# Altium schematic symbol library SEMATIK_LIB.SchLib: 632 symbols (part 3 of 21)
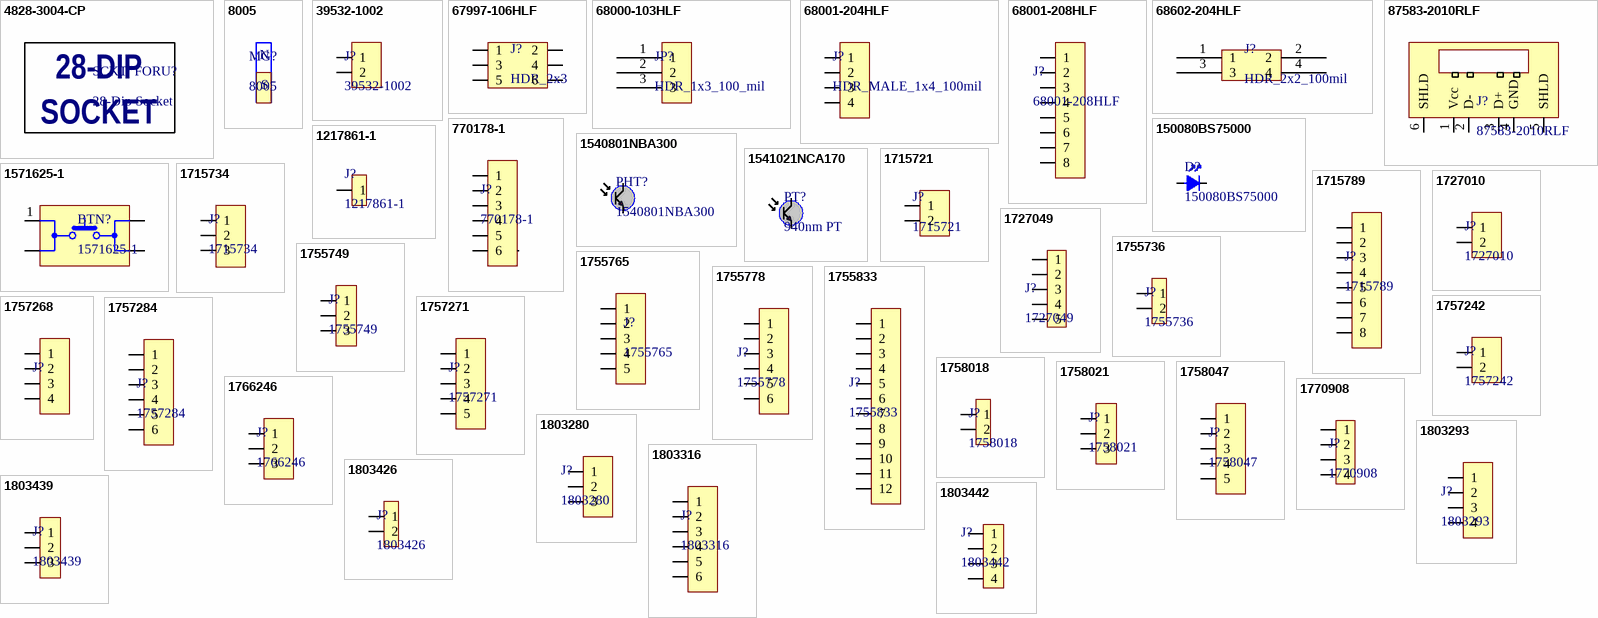
[diagram p18: symbols 4828-3004-CP to 1803442]

## 1755833
designator J?
TERM BLOCK HDR 12POS VERT 5.08MM; Manufacturer: Phoenix Contact; Current Rating: 12A; Voltage Rating: 250V; Number of Positions: 12; Number of Levels: 1; Voltage: 300V; Connector Type: Plug; Approvals: UL,CSA; Supplier 1: Digi-Key; Manufacturer Part Number: 1755833; Stock 1: 732; Pricing 1: 1 = 3,78000, 10 = 3,67400, 50 = 3,43360, 100 = 3,15880, 250 = 2,91848, 500 = 2,78116, 1000 = 2,60948 (USD); RoHS: Yes; Mount: Through Hole; Weight: 5.467464oz; Housing Material: Polybutylene; Housing Color: Green; Color: Grey,Green; Contact Plating: Tin; Contact Material: Tin; Package Quantity: 50; Packaging: Bulk; Termination: Solder; Number of Positions Per Level: 12; Current: 12A; Max Current Rating: 12A; Number of Rows: 1; Number of Contacts: 12; Orientation: Straight; Number of Poles: 12; Voltage Rating (DC): 250V; Length: 62.96mm; Height: 15.9mm; Pitch: 5.08mm; Width: 62.96mm; Depth: 8.6mm; Flammability Rating: UL94 V-0; Lead Free: Lead Free; REACH SVHC: Unknown; ComponentLink1URL: https://datasheet.ciiva.com/16096/1755833-16096339.pdf?src-supplier=Onlinecomponents.com; ComponentLink1Description: https://datasheet.ciiva.com/16096/1755833-16096339.pdf?src-supplier=Onlinecomponents.com; ComponentLink2URL: https://datasheet.ciiva.com/15197/getdatasheetpartid-211504-15197323.pdf?src-supplier=Verical; ComponentLink2Description: https://datasheet.ciiva.com/15197/getdatasheetpartid-211504-15197323.pdf?src-supplier=Verical; ComponentLink3URL: https://datasheet.ciiva.com/795/1755833-795503.pdf?src-supplier=Digi-Key; ComponentLink3Description: https://datasheet.ciiva.com/795/1755833-795503.pdf?src-supplier=Digi-Key; ComponentLink4URL: https://datasheet.ciiva.com/29210/569046-da-01-de-grundgehaeuse-1755833-50-st-29210300.pdf?src-supplier=Conrad; ComponentLink4Description: https://datasheet.ciiva.com/29210/569046-da-01-de-grundgehaeuse-1755833-50-st-29210300.pdf?src-supplier=Conrad; ComponentLink5URL: https://datasheet.ciiva.com/33106/1755833-33106188.pdf?src-supplier=Today+Components; ComponentLink5Description: https://datasheet.ciiva.com/33106/1755833-33106188.pdf?src-supplier=Today+Components; Supplier Part Number 1: 277-1160-ND
footprint SOCKET_5.08_1X12_180_CLOSE
footprint SOCKET_5.08_1X12_180_CLOSE_WITH_PLUG
pins: 1, 2, 3, 4, 5, 6, 7, 8, 9, 10, 11, 12

## 1757242
designator J?
TERM BLOCK HDR 2POS 90DEG 5.08MM; Manufacturer 1: Phoenix Contact; Max Current Rating: 12A; Number of Poles: 2; Voltage Rating: 250V; Number of Levels: 1; Current: 15A; Voltage: 300V; Gender: Male; Connector Type: Plug; Voltage Rating (DC): 320V; Approvals: UL,CSA,VDE,EN; Supplier 1: Digi-Key; Manufacturer Part Number 1: 1757242; Stock 1: 17400; Pricing 1: 1=0.64, 10=0.616, 50=0.589, 100=0.573, 250=0.53552, 500=0.49266, 1000=0.45518, 2500=0.43375, 5000=0.40698 (USD); Mount: Through Hole; Weight: 5.396916oz; Contact Plating: Tin; Color: Grey,Green; Housing Color: Green; Contact Material: Tin; Housing Material: Polyamide; Number of Rows: 1; Current Rating: 12A; Package Quantity: 50; Packaging: Bulk; Number of Positions: 2; Termination: Solder; Number of Positions Per Level: 2; Number of Contacts: 2; Orientation: Right Angle; Length: 12.16mm; Height: 12.08mm; Pitch: 5.08mm; Width: 12.1mm; Depth: 12mm; REACH SVHC: No SVHC; Lead Free: Lead Free; Flammability Rating: UL94 V-0; ComponentLink1URL: https://media.digikey.com/pdf/Data%20Sheets/Phoenix%20Contact%20PDFs/1757242.pdf?src-supplier=Verical; ComponentLink1Description: https://media.digikey.com/pdf/Data%20Sheets/Phoenix%20Contact%20PDFs/1757242.pdf?src-supplier=Verical; ComponentLink2URL: https://media.digikey.com/pdf/Data%20Sheets/Phoenix%20Contact%20PDFs/1757242.pdf?src-supplier=Onlinecomponents.com; ComponentLink2Description: https://media.digikey.com/pdf/Data%20Sheets/Phoenix%20Contact%20PDFs/1757242.pdf?src-supplier=Onlinecomponents.com; ComponentLink3URL: http://www.farnell.com/datasheets/2138262.pdf?src-supplier=Element14; ComponentLink3Description: http://www.farnell.com/datasheets/2138262.pdf?src-supplier=Element14; ComponentLink4URL: https://media.digikey.com/pdf/Data%20Sheets/Phoenix%20Contact%20PDFs/1757242.pdf?src-supplier=Digi-Key; ComponentLink4Description: https://media.digikey.com/pdf/Data%20Sheets/Phoenix%20Contact%20PDFs/1757242.pdf?src-supplier=Digi-Key; ComponentLink5URL: http://www.todaycomponents.com/media/datasheet/1757242.pdf?src-supplier=Today+Components; ComponentLink5Description: http://www.todaycomponents.com/media/datasheet/1757242.pdf?src-supplier=Today+Components; ComponentLink6URL: https://produktinfo.conrad.com/datenblaetter/550000-574999/569017-da-01-en-GRUNDGEHAEUSE__1757242_250_ST.pdf?src-supplier=Conrad; ComponentLink6Description: https://produktinfo.conrad.com/datenblaetter/550000-574999/569017-da-01-en-GRUNDGEHAEUSE__1757242_250_ST.pdf?src-supplier=Conrad; Supplier Part Number 1: 277-1106-ND
footprint SOCKET_5.08_1X2_90_CLOSE
pins: 1, 2

## 1757268
designator J?, comment 1x4_200mil_90DRC_closed  (value not drawn)
TERM BLOCK HDR 4POS 90DEG 5.08MM; Manufacturer: Phoenix Contact; Manufacturer Part Number: 1757268; Number of Positions: 4; Connector Type: Plug; Max Current Rating: 12A; Voltage Rating: 250V; Number of Levels: 1; Current: 15A; Voltage: 300V; Gender: Male; Approvals: CSA,UL; Supplier 1: Digi-Key; Stock 1: 4034; Pricing 1: 1=1.4, 10=1.34, 50=1.282, 100=1.2471, 250=1.16552, 500=1.07226, 1000=0.99067, 2500=0.94405, 5000=0.88579 (USD); Mount: Through Hole; Weight: 5.396916oz; Color: Green; Contact Plating: Tin; Housing Color: Green; Housing Material: Polybutylene; Contact Material: Tin; Package Quantity: 50; Packaging: Bulk; Current Rating: 12A; Number of Positions Per Level: 4; Termination: Solder; Number of Contacts: 4; Number of Rows: 1; Number of Poles: 4; Orientation: Right Angle; Voltage Rating (DC): 250V; Length: 22.32mm; Height: 12.1mm; Pitch: 5.08mm; Width: 22.24mm; Depth: 12mm; Flammability Rating: UL94 V-0; Lead Free: Lead Free; REACH SVHC: No SVHC; ComponentLink1URL: https://www.verical.com/server-webapp/html/getDatasheet?partID=176352&src-supplier=Verical; ComponentLink1Description: https://www.verical.com/server-webapp/html/getDatasheet?partID=176352&src-supplier=Verical; ComponentLink2URL: http://www.farnell.com/datasheets/2309814.pdf?src-supplier=Element14; ComponentLink2Description: http://www.farnell.com/datasheets/2309814.pdf?src-supplier=Element14; ComponentLink3URL: https://media.digikey.com/pdf/Data%20Sheets/Phoenix%20Contact%20PDFs/1757268.pdf?src-supplier=Digi-Key; ComponentLink3Description: https://media.digikey.com/pdf/Data%20Sheets/Phoenix%20Contact%20PDFs/1757268.pdf?src-supplier=Digi-Key; ComponentLink4URL: https://www.alliedelec.com/m/d/3eb046be4227fef2fbc4145d8358688f.pdf?src-supplier=Allied+Electronics; ComponentLink4Description: https://www.alliedelec.com/m/d/3eb046be4227fef2fbc4145d8358688f.pdf?src-supplier=Allied+Electronics; ComponentLink5URL: https://produktinfo.conrad.com/datenblaetter/550000-574999/569323-da-01-en-GRUNDGEHAEUSE__1757268_250_ST.pdf?src-supplier=Conrad; ComponentLink5Description: https://produktinfo.conrad.com/datenblaetter/550000-574999/569323-da-01-en-GRUNDGEHAEUSE__1757268_250_ST.pdf?src-supplier=Conrad; Supplier Part Number 1: 277-1108-ND
footprint 1x4_200mil_connector_90_closed
pins: 1, 2, 3, 4

## 1757271
designator J?
TERM BLOCK HDR 5POS 90DEG 5.08MM CLOSED; Manufacturer 1: Phoenix Contact; Current Rating: 12A; Voltage Rating: 250V; Number of Positions: 5; Number of Levels: 1; Current: 15A; Voltage: 300V; Connector Type: Plug; Gender: Male; Voltage Rating (DC): 320V; Approvals: UL,CSA,VDE,EN; Supplier 1: Digi-Key; Manufacturer Part Number 1: 1757271; Stock 1: 2980; Pricing 1: 1=1.75, 10=1.678, 50=1.6054, 100=1.5617, 250=1.45952, 500=1.34274, 1000=1.24057, 2500=1.18219, 5000=1.10922 (USD); Mount: Through Hole; Weight: 5.396916oz; Color: Green; Contact Plating: Tin; Housing Color: Green; Housing Material: Polybutylene; Contact Material: Tin; Package Quantity: 50; Packaging: Bulk; Termination: Solder; Number of Positions Per Level: 5; Number of Rows: 1; Max Current Rating: 12A; Number of Contacts: 5; Orientation: Right Angle; Number of Poles: 5; Length: 27.4mm; Height: 12.1mm; Pitch: 5.08mm; Width: 27.32mm; Depth: 12mm; Flammability Rating: UL94 V-0; Lead Free: Lead Free; REACH SVHC: No SVHC; ComponentLink1URL: https://www.verical.com/server-webapp/html/getDatasheet?partID=198279&src-supplier=Verical; ComponentLink1Description: https://www.verical.com/server-webapp/html/getDatasheet?partID=198279&src-supplier=Verical; ComponentLink2URL: http://www.farnell.com/datasheets/2138264.pdf?src-supplier=Element14; ComponentLink2Description: http://www.farnell.com/datasheets/2138264.pdf?src-supplier=Element14; ComponentLink3URL: https://www.alliedelec.com/m/d/0bb13555a46e368f5bcbd94295d3126c.pdf?src-supplier=Allied+Electronics; ComponentLink3Description: https://www.alliedelec.com/m/d/0bb13555a46e368f5bcbd94295d3126c.pdf?src-supplier=Allied+Electronics; ComponentLink4URL: https://media.digikey.com/pdf/Data%20Sheets/Phoenix%20Contact%20PDFs/1757271.pdf?src-supplier=Digi-Key; ComponentLink4Description: https://media.digikey.com/pdf/Data%20Sheets/Phoenix%20Contact%20PDFs/1757271.pdf?src-supplier=Digi-Key; ComponentLink5URL: https://produktinfo.conrad.com/datenblaetter/775000-799999/775753-da-01-en-GRUNDGEHAEUSE__1757271_250_ST.pdf?src-supplier=Conrad; ComponentLink5Description: https://produktinfo.conrad.com/datenblaetter/775000-799999/775753-da-01-en-GRUNDGEHAEUSE__1757271_250_ST.pdf?src-supplier=Conrad; Supplier Part Number 1: 277-1109-ND
footprint SOCKET_5.08_1X5_90_CLOSE
pins: 1, 2, 3, 4, 5

## 1757284
designator J?
TERM BLOCK HDR 6POS 90DEG 5.08MM
footprint SOCKET_5.08_1x6_90_CLOSE
pins: 1, 2, 3, 4, 5, 6

## 1758018
designator J?
TERM BLOCK HDR 2POS VERT 5.08MM; Manufacturer: Phoenix Contact; Current Rating: 12A; Voltage Rating: 250V; Number of Poles: 2; Number of Levels: 1; Voltage: 300V; Approvals: UL,CSA,VDE,EN; Supplier 1: Digi-Key; Manufacturer Part Number: 1758018; Stock 1: 4815; Pricing 1: 1 = 0,64000, 10 = 0,61600, 50 = 0,58900, 100 = 0,57300, 250 = 0,53552, 500 = 0,49266, 1000 = 0,45518, 2500 = 0,43375, 5000 = 0,40698 (USD); RoHS: Yes; Mount: Through Hole; Weight: 5.43219oz; Housing Material: Polybutylene; Color: Green,Grey; Contact Plating: Tin; Housing Color: Green; Contact Material: Copper; Package Quantity: 50; Packaging: Bulk; Number of Rows: 1; Max Current Rating: 12A; Number of Positions Per Level: 2; Termination: Solder; Current: 12A; Number of Positions: 2; Number of Contacts: 2; Orientation: Straight; Length: 15.24mm; Height: 10.16mm; Width: 15.9mm; Pitch: 5.08mm; Depth: 8.6mm; Flammability Rating: UL94 V-0; Lead Free: Lead Free; ComponentLink1URL: https://datasheet.ciiva.com/11750/0900766b800b6dad-11750535.pdf?src-supplier=RSComponents; ComponentLink1Description: https://datasheet.ciiva.com/11750/0900766b800b6dad-11750535.pdf?src-supplier=RSComponents; ComponentLink2URL: https://datasheet.ciiva.com/16096/1758018-16096478.pdf?src-supplier=Onlinecomponents.com; ComponentLink2Description: https://datasheet.ciiva.com/16096/1758018-16096478.pdf?src-supplier=Onlinecomponents.com; ComponentLink3URL: https://datasheet.ciiva.com/795/1758018-795409.pdf?src-supplier=Digi-Key; ComponentLink3Description: https://datasheet.ciiva.com/795/1758018-795409.pdf?src-supplier=Digi-Key; ComponentLink4URL: https://datasheet.ciiva.com/29212/743603-da-01-de-grundgehaeuse-mstbv-2-5-2-g-5-08-29212127.pdf?src-supplier=Conrad; ComponentLink4Description: https://datasheet.ciiva.com/29212/743603-da-01-de-grundgehaeuse-mstbv-2-5-2-g-5-08-29212127.pdf?src-supplier=Conrad; Supplier Part Number 1: 277-1128-ND
footprint 1x2_200MIL_CONNECTOR_180
footprint 1x2_200MIL_CONNECTOR_180_Blue
footprint 1x2_200MIL_CONNECTOR_180_Yellow
pins: 1, 2

## 1758021
designator J?
TERM BLOCK HDR 3POS VERT 5.08MM; Manufacturer: Phoenix Contact; Max Current Rating: 12A; Voltage Rating: 250V; Number of Poles: 3; Number of Levels: 1; Voltage: 300V; Voltage Rating (DC): 320V; Approvals: UL,CSA; Supplier 1: Digi-Key; Manufacturer Part Number: 1758021; Stock 1: 1443; Pricing 1: 1 = 1,03000, 10 = 0,99000, 50 = 0,94720, 100 = 0,92130, 250 = 0,86100, 500 = 0,79212, 1000 = 0,73185, 2500 = 0,69741, 5000 = 0,65436 (USD); RoHS: Yes; Mount: Through Hole; Weight: 5.43219oz; Color: Grey,Green; Contact Plating: Tin; Contact Material: Copper; Housing Color: Green; Housing Material: Polybutylene; Current Rating: 12A; Package Quantity: 50; Packaging: Bulk; Number of Rows: 1; Orientation: Straight; Number of Positions: 3; Termination: Solder; Number of Positions Per Level: 3; Current: 12A; Number of Contacts: 3; Length: 15.24mm; Height: 15.24mm; Width: 15.9mm; Pitch: 5.08mm; Depth: 8.6mm; Lead Free: Lead Free; Flammability Rating: UL94 V-0; ComponentLink1URL: https://datasheet.ciiva.com/16096/1758021-16096480.pdf?src-supplier=Onlinecomponents.com; ComponentLink1Description: https://datasheet.ciiva.com/16096/1758021-16096480.pdf?src-supplier=Onlinecomponents.com; ComponentLink2URL: https://datasheet.ciiva.com/11748/0900766b800b6dad-11748982.pdf?src-supplier=RSComponents; ComponentLink2Description: https://datasheet.ciiva.com/11748/0900766b800b6dad-11748982.pdf?src-supplier=RSComponents; ComponentLink3URL: https://datasheet.ciiva.com/795/1758021-795420.pdf?src-supplier=Digi-Key; ComponentLink3Description: https://datasheet.ciiva.com/795/1758021-795420.pdf?src-supplier=Digi-Key; ComponentLink4URL: https://datasheet.ciiva.com/26882/getdatasheetpartid-299204-26882316.pdf?src-supplier=Verical; ComponentLink4Description: https://datasheet.ciiva.com/26882/getdatasheetpartid-299204-26882316.pdf?src-supplier=Verical; ComponentLink5URL: https://datasheet.ciiva.com/29212/743617-da-01-de-grundgehaeuse-mstbv-2-5-3-g-5-08-29212188.pdf?src-supplier=Conrad; ComponentLink5Description: https://datasheet.ciiva.com/29212/743617-da-01-de-grundgehaeuse-mstbv-2-5-3-g-5-08-29212188.pdf?src-supplier=Conrad; Supplier Part Number 1: 277-1129-ND
footprint SOCKET_5.08_1X3_180_OPEN_GREEN
footprint SOCKET_5.08_1X3_180_OPEN_ORANGE
footprint SOCKET_5.08_1X3_180_OPEN_BLACK
pins: 1, 2, 3

## 1758047
designator J?
TERM BLOCK HDR 5POS VERT 5.08MM; Manufacturer 1: Phoenix Contact; Max Current Rating: 12A; Voltage Rating: 250V; Number of Positions: 5; Number of Levels: 1; Voltage: 300V; Voltage Rating (DC): 320V; Approvals: UL,CSA; Supplier 1: Digi-Key; Manufacturer Part Number 1: 1758047; Description 1: TERM BLOCK HDR 5POS VERT 5.08MM; Stock 1: 501; Pricing 1: 1=1.76, 10=1.691, 50=1.617, 100=1.5729, 250=1.47, 500=1.3524, 1000=1.2495, 2500=1.1907, 5000=1.1172 (USD); Mount: Through Hole; Weight: 5.43219oz; Contact Plating: Tin; Housing Material: Polybutylene; Contact Material: Copper; Color: Green,Grey; Housing Color: Green; Package Quantity: 50; Packaging: Bulk; Current Rating: 12A; Termination: Solder; Number of Contacts: 5; Orientation: Straight; Number of Rows: 1; Number of Positions Per Level: 5; Current: 12A; Number of Poles: 5; Length: 25.4mm; Height: 15.9mm; Width: 25.4mm; Pitch: 5.08mm; Depth: 8.6mm; Flammability Rating: UL94 V-0; Lead Free: Lead Free; ComponentLink1URL: https://www.verical.com/server-webapp/html/getDatasheet?partID=258288&src-supplier=Verical; ComponentLink1Description: https://www.verical.com/server-webapp/html/getDatasheet?partID=258288&src-supplier=Verical; ComponentLink2URL: https://media.digikey.com/pdf/Data%20Sheets/Phoenix%20Contact%20PDFs/1758047.pdf?src-supplier=Digi-Key; ComponentLink2Description: https://media.digikey.com/pdf/Data%20Sheets/Phoenix%20Contact%20PDFs/1758047.pdf?src-supplier=Digi-Key; ComponentLink3URL: https://produktinfo.conrad.com/datenblaetter/725000-749999/743644-da-01-en-GRUNDGEHAEUSE__MSTBV_2_5__5_G_5_08.pdf?src-supplier=Conrad; ComponentLink3Description: https://produktinfo.conrad.com/datenblaetter/725000-749999/743644-da-01-en-GRUNDGEHAEUSE__MSTBV_2_5__5_G_5_08.pdf?src-supplier=Conrad; Supplier Part Number 1: 277-1131-ND
footprint SOCKET_5.08_1X5_180
pins: 1, 2, 3, 4, 5

## 1766246
designator J?
TERM BLOCK HDR 3POS 90DEG 7.62MM; Manufacturer: Phoenix Contact; Description 1: Terminal Block, Header, 3Pos, R/A, Th; Number of Contacts: 3; Number of Levels: 1; Current: 10A; Voltage: 300V; Current Rating: 12A; Voltage Rating: 400V; Connector Type: Plug; Approvals: CB,CSA,UL,VDE; Supplier 1: Digi-Key; Manufacturer Part Number 1: 1766246; Stock 1: 299; Pricing 1: 1 = 1,93000, 10 = 1,84700, 50 = 1,76720, 100 = 1,71900, 250 = 1,60652, 500 = 1,47798, 1000 = 1,36552, 2500 = 1,30128, 5000 = 1,22094 (USD); Mount: Through Hole; Weight: 6.172943oz; Color: Green; Contact Material: Tin; Housing Color: Green; Housing Material: Polybutylene; Contact Plating: Tin; Package Quantity: 50; Termination: Solder; Packaging: Bulk; Number of Positions Per Level: 3; Number of Rows: 1; Orientation: Right Angle; Number of Positions: 3; Max Current Rating: 12A; Number of Poles: 3; Length: 22.86mm; Height: 18.5mm; Pitch: 7.62mm; Depth: 12mm; Width: 22.86mm; Lead Free: Lead Free; Flammability Rating: UL94 V-0; ComponentLink1URL: https://media.digikey.com/pdf/Data%20Sheets/Phoenix%20Contact%20PDFs/1766246.pdf; ComponentLink1Description: https://media.digikey.com/pdf/Data%20Sheets/Phoenix%20Contact%20PDFs/1766246.pdf; ComponentLink2URL: https://produktinfo.conrad.com/datenblaetter/550000-574999/569254-da-01-en-GRUNDGEHAEUSE__1766246_250_ST.pdf; ComponentLink2Description: https://produktinfo.conrad.com/datenblaetter/550000-574999/569254-da-01-en-GRUNDGEHAEUSE__1766246_250_ST.pdf; ComponentLink3URL: http://datasheet.octopart.com/GMSTBA-2%2C5--3-G-7%2C62-Phoenix-Contact-datasheet-67697950.pdf; ComponentLink3Description: http://datasheet.octopart.com/GMSTBA-2%2C5--3-G-7%2C62-Phoenix-Contact-datasheet-67697950.pdf; ComponentLink4URL: http://datasheet.octopart.com/1766246-Phoenix-Contact-datasheet-39407.pdf; ComponentLink4Description: http://datasheet.octopart.com/1766246-Phoenix-Contact-datasheet-39407.pdf; ComponentLink5URL: http://datasheet.octopart.com/1766246-Phoenix-Contact-datasheet-33472619.pdf; ComponentLink5Description: http://datasheet.octopart.com/1766246-Phoenix-Contact-datasheet-33472619.pdf; ComponentLink6URL: http://datasheet.octopart.com/1766246-Phoenix-Contact-datasheet-62084111.pdf; ComponentLink6Description: http://datasheet.octopart.com/1766246-Phoenix-Contact-datasheet-62084111.pdf; Supplier Part Number 1: 277-5994-ND
footprint 1x3_300mil_connector_90_closed
pins: 1, 2, 3

## 1770908
designator J?
TERM BLOCK 4POS 2.5mm SCREWLESS 90DEG PCB; Manufacturer: Phoenix Contact; Current Rating: 6A; Voltage Rating: 200V; Number of Levels: 1; Number of Positions Per Level: 4; Current: 5A; Voltage: 150V; Wire Gauge (Max): 26AWG; Wire Gauge (Min): 20AWG; Supplier 1: Digi-Key; Manufacturer Part Number: 1770908; Stock 1: 3180; Pricing 1: 530 = 0,73500, 1060 = 0,67620, 1590 = 0,62475 (USD); RoHS: Yes; Mount: Through Hole; Housing Material: Polymer; Color: Black; Housing Color: Black; Contact Plating: Tin; Orientation: Horizontal; Package Quantity: 1; Packaging: Tape and Reel; Termination: Screwless; Number of Positions: 4; Number of Poles: 4; Length: 10mm; Pitch: 2.5mm; Flammability Rating: UL94 V-0; Lead Free: Lead Free; ComponentLink1URL: https://datasheet.ciiva.com/824/1770908-824240.pdf?src-supplier=Digi-Key; ComponentLink1Description: https://datasheet.ciiva.com/824/1770908-824240.pdf?src-supplier=Digi-Key; ComponentLink2URL: https://datasheet.ciiva.com/26945/getdatasheetpartid-464006-26945362.pdf?src-supplier=Verical; ComponentLink2Description: https://datasheet.ciiva.com/26945/getdatasheetpartid-464006-26945362.pdf?src-supplier=Verical; ComponentLink3URL: https://datasheet.ciiva.com/29121/567629-da-01-de-printklemme-1770908-530-st-29121155.pdf?src-supplier=Conrad; ComponentLink3Description: https://datasheet.ciiva.com/29121/567629-da-01-de-printklemme-1770908-530-st-29121155.pdf?src-supplier=Conrad; Supplier Part Number 1: 277-2081-2-ND
pins: 1, 2, 3, 4

## 1803280
designator J?
TERM BLOCK HDR 3POS 90DEG 3.81MM; Manufacturer: Phoenix Contact; Current Rating: 8A; Connector Type: PCB,Terminal Block; Voltage Rating: 160V; Number of Positions Per Level: 3; Number of Levels: 1; Voltage: 300V; Gender: Male; Voltage Rating (DC): 640mV; Test Voltage: 2.5kV; Approvals: UL,CSA; Supplier 1: Digi-Key; Manufacturer Part Number: 1803280; Stock 1: 1952; Pricing 1: 1 = 1,26000, 10 = 1,20800, 50 = 1,15500, 100 = 1,12350, 250 = 1,05000, 500 = 0,96600, 1000 = 0,89250, 2500 = 0,85050, 5000 = 0,79800 (USD); RoHS: Yes; Mount: Through Hole; Housing Color: Green; Color: Green; Contact Plating: Tin; Weight: 4oz; Housing Material: Polybutylene; Package Quantity: 50; Packaging: Bulk; Termination: Solder; Number of Rows: 1; Current: 8A; Number of Positions: 3; Number of Contacts: 3; Max Current Rating: 8A; Orientation: Right Angle; Number of Poles: 3; Voltage Rating (AC): 160V; Contact Gender: Male; Length: 12.82mm; Width: 18.7mm; Pitch: 3.81mm; Depth: 9.2mm; Lead Free: Lead Free; Flammability Rating: UL94 V-0; REACH SVHC: Unknown; ComponentLink1URL: https://datasheet.ciiva.com/796/1803280-796688.pdf?src-supplier=Digi-Key; ComponentLink1Description: https://datasheet.ciiva.com/796/1803280-796688.pdf?src-supplier=Digi-Key; ComponentLink2URL: https://datasheet.ciiva.com/11747/0900766b80029ea6-11747045.pdf?src-supplier=RSComponents; ComponentLink2Description: https://datasheet.ciiva.com/11747/0900766b80029ea6-11747045.pdf?src-supplier=RSComponents; ComponentLink3URL: https://datasheet.ciiva.com/26920/getdatasheetpartid-198283-26920517.pdf?src-supplier=Verical; ComponentLink3Description: https://datasheet.ciiva.com/26920/getdatasheetpartid-198283-26920517.pdf?src-supplier=Verical; ComponentLink4URL: https://datasheet.ciiva.com/16096/1803280-16096847.pdf?src-supplier=Onlinecomponents.com; ComponentLink4Description: https://datasheet.ciiva.com/16096/1803280-16096847.pdf?src-supplier=Onlinecomponents.com; ComponentLink5URL: https://datasheet.ciiva.com/16939/70054541-16939094.pdf?src-supplier=Allied+Electronics; ComponentLink5Description: https://datasheet.ciiva.com/16939/70054541-16939094.pdf?src-supplier=Allied+Electronics; ComponentLink6URL: https://datasheet.ciiva.com/33106/1803280-33106171.pdf?src-supplier=Today+Components; ComponentLink6Description: https://datasheet.ciiva.com/33106/1803280-33106171.pdf?src-supplier=Today+Components; Supplier Part Number 1: 277-1207-ND
footprint SOCKET_3.81_1X3_90_CLOSE
footprint SOCKET_3.81_1X3_90_CLOSE_WITH_PLUG
pins: 1, 2, 3

## 1803293
designator J?
TERM BLOCK HDR 4POS 90DEG 3.81MM; Manufacturer: Phoenix Contact; Current Rating: 8A; Number of Positions Per Level: 4; Number of Levels: 1; Voltage: 300V; Connector Type: PCB,Terminal Block; Voltage Rating: 160V; Voltage Rating (DC): 640mV; Test Voltage: 2.5kV; Approvals: UL,CSA; Supplier 1: Digi-Key; Manufacturer Part Number: 1803293; Stock 1: 3322; Pricing 1: 1 = 1,71000, 10 = 1,64200, 50 = 1,57080, 100 = 1,52800, 250 = 1,42800, 500 = 1,31376, 1000 = 1,21381, 2500 = 1,15668, 5000 = 1,08528 (USD); RoHS: Yes; Mount: Through Hole; Weight: 4oz; Housing Color: Green; Color: Green; Housing Material: Polybutylene; Contact Plating: Tin; Package Quantity: 50; Termination: Solder; Packaging: Bulk; Current: 8A; Number of Positions: 4; Number of Contacts: 4; Number of Rows: 1; Orientation: Right Angle; Max Current Rating: 8A; Number of Poles: 4; Contact Gender: Male; Length: 16.63mm; Pitch: 3.81mm; Width: 18.7mm; Depth: 9.2mm; Lead Free: Lead Free; REACH SVHC: Unknown; Flammability Rating: UL94 V-0; ComponentLink1URL: https://datasheet.ciiva.com/16096/1803293-16096849.pdf?src-supplier=Onlinecomponents.com; ComponentLink1Description: https://datasheet.ciiva.com/16096/1803293-16096849.pdf?src-supplier=Onlinecomponents.com; ComponentLink2URL: https://datasheet.ciiva.com/11746/0900766b80029ea6-11746786.pdf?src-supplier=RSComponents; ComponentLink2Description: https://datasheet.ciiva.com/11746/0900766b80029ea6-11746786.pdf?src-supplier=RSComponents; ComponentLink3URL: https://datasheet.ciiva.com/796/1803293-796707.pdf?src-supplier=Digi-Key; ComponentLink3Description: https://datasheet.ciiva.com/796/1803293-796707.pdf?src-supplier=Digi-Key; ComponentLink4URL: https://datasheet.ciiva.com/11748/0900766b811d7700-11748248.pdf?src-supplier=RSComponents; ComponentLink4Description: https://datasheet.ciiva.com/11748/0900766b811d7700-11748248.pdf?src-supplier=RSComponents; ComponentLink5URL: https://datasheet.ciiva.com/15227/getdatasheetpartid-176366-15227341.pdf?src-supplier=Verical; ComponentLink5Description: https://datasheet.ciiva.com/15227/getdatasheetpartid-176366-15227341.pdf?src-supplier=Verical; ComponentLink6URL: https://datasheet.ciiva.com/3934/1803293-3934347.pdf?src-supplier=Arrow+Electronics; ComponentLink6Description: https://datasheet.ciiva.com/3934/1803293-3934347.pdf?src-supplier=Arrow+Electronics; ComponentLink7URL: https://datasheet.ciiva.com/29212/740571-da-01-de-leiterplattenstecker-mc-1-5-4-g-3-81-29212070.pdf?src-supplier=Conrad; ComponentLink7Description: https://datasheet.ciiva.com/29212/740571-da-01-de-leiterplattenstecker-mc-1-5-4-g-3-81-29212070.pdf?src-supplier=Conrad; ComponentLink8URL: https://datasheet.ciiva.com/16939/70054542-16939308.pdf?src-supplier=Allied+Electronics; ComponentLink8Description: https://datasheet.ciiva.com/16939/70054542-16939308.pdf?src-supplier=Allied+Electronics; Supplier Part Number 1: 277-1208-ND
footprint SOCKET_3.81_1X4_90_CLOSE
footprint SOCKET_3.81_1X4_90_CLOSE_WITH_PLUG
pins: 1, 2, 3, 4

## 1803316
designator J?
TERM BLOCK HDR 6POS 90DEG 3.81MM; Manufacturer: Phoenix Contact; Current Rating: 8A; Voltage Rating: 160V; Number of Poles: 6; Connector Type: PCB,Terminal Block,Plug; Number of Levels: 1; Voltage: 300V; Voltage Rating (DC): 640mV; Approvals: UL,CSA; Supplier 1: Digi-Key; Manufacturer Part Number: 1803316; Stock 1: 1905; Pricing 1: 1 = 2,44000, 10 = 2,33300, 50 = 2,26940, 100 = 2,12100, 250 = 1,95132, 500 = 1,80286, 1000 = 1,71802, 2500 = 1,61196 (USD); RoHS: Yes; Mount: Through Hole; Weight: 4oz; Housing Color: Green; Color: Green; Contact Plating: Tin; Housing Material: Polybutylene; Contact Material: Tin; Package Quantity: 50; Packaging: Bulk; Termination: Solder; Number of Positions: 6; Number of Positions Per Level: 6; Current: 8A; Number of Rows: 1; Number of Contacts: 6; Orientation: Right Angle; Max Current Rating: 8A; Length: 24.25mm; Height: 10.65mm; Width: 24.25mm; Pitch: 3.81mm; Depth: 9.2mm; Flammability Rating: UL94 V-0; Lead Free: Lead Free; REACH SVHC: Unknown; ComponentLink1URL: https://datasheet.ciiva.com/15197/getdatasheetpartid-176392-15197457.pdf?src-supplier=Verical; ComponentLink1Description: https://datasheet.ciiva.com/15197/getdatasheetpartid-176392-15197457.pdf?src-supplier=Verical; ComponentLink2URL: https://datasheet.ciiva.com/16096/1803316-16096853.pdf?src-supplier=Onlinecomponents.com; ComponentLink2Description: https://datasheet.ciiva.com/16096/1803316-16096853.pdf?src-supplier=Onlinecomponents.com; ComponentLink3URL: https://datasheet.ciiva.com/795/1803316-795462.pdf?src-supplier=Digi-Key; ComponentLink3Description: https://datasheet.ciiva.com/795/1803316-795462.pdf?src-supplier=Digi-Key; ComponentLink4URL: https://datasheet.ciiva.com/16312/1803316-16312907.pdf?src-supplier=Future+Electronics; ComponentLink4Description: https://datasheet.ciiva.com/16312/1803316-16312907.pdf?src-supplier=Future+Electronics; ComponentLink5URL: https://datasheet.ciiva.com/11747/0900766b80029ea6-11747134.pdf?src-supplier=RSComponents; ComponentLink5Description: https://datasheet.ciiva.com/11747/0900766b80029ea6-11747134.pdf?src-supplier=RSComponents; ComponentLink6URL: https://datasheet.ciiva.com/29212/740605-da-01-de-leiterplattenstecker-mc-1-5-6-g-3-81-29212075.pdf?src-supplier=Conrad; ComponentLink6Description: https://datasheet.ciiva.com/29212/740605-da-01-de-leiterplattenstecker-mc-1-5-6-g-3-81-29212075.pdf?src-supplier=Conrad; ComponentLink7URL: https://datasheet.ciiva.com/16939/70054544-16939191.pdf?src-supplier=Allied+Electronics; ComponentLink7Description: https://datasheet.ciiva.com/16939/70054544-16939191.pdf?src-supplier=Allied+Electronics; Supplier Part Number 1: 277-1210-ND
footprint SOCKET_3.81_1X6_90_CLOSE
footprint SOCKET_3.81_1X6_90_CLOSE_WITH_PLUG
pins: 1, 2, 3, 4, 5, 6

## 1803426
designator J?
TERM BLOCK HDR 2POS VERT 3.81MM; Manufacturer 1: Phoenix Contact; Current Rating: 8A; Voltage Rating: 160V; Number of Positions: 2; Number of Levels: 1; Connector Type: Plug; Gender: Male; Voltage Rating (DC): 640mV; Approvals: UL,CSA,VDE,cULus,CB; Supplier 1: Digi-Key; Manufacturer Part Number 1: 1803426; Description 1: TERM BLOCK HDR 2POS VERT 3.81MM; Stock 1: 6704; Pricing 1: 1=0.83, 10=0.797, 50=0.7624, 100=0.7415, 250=0.693, 500=0.63756, 1000=0.58905, 2500=0.56133, 5000=0.52668 (USD); Mount: Through Hole; Weight: 4oz; Color: Green; Contact Plating: Tin; Housing Color: Green; Housing Material: Polybutylene; Contact Material: Tin; Package Quantity: 50; Packaging: Bulk; Termination: Solder; Number of Positions Per Level: 2; Current: 8A; Voltage: 160V; Number of Rows: 1; Max Current Rating: 8A; Orientation: Straight; Number of Contacts: 2; Number of Poles: 2; Length: 9.01mm; Height: 9.01mm; Pitch: 3.81mm; Width: 12.6mm; Depth: 7.25mm; Lead Free: Lead Free; Flammability Rating: UL94 V-0; REACH SVHC: No SVHC; ComponentLink1URL: http://www.farnell.com/datasheets/2309843.pdf?src-supplier=Element14; ComponentLink1Description: http://www.farnell.com/datasheets/2309843.pdf?src-supplier=Element14; ComponentLink2URL: https://media.digikey.com/pdf/Data%20Sheets/Phoenix%20Contact%20PDFs/1803426.pdf?src-supplier=Digi-Key; ComponentLink2Description: https://media.digikey.com/pdf/Data%20Sheets/Phoenix%20Contact%20PDFs/1803426.pdf?src-supplier=Digi-Key; ComponentLink3URL: https://www.alliedelec.com/m/d/83b2d53b3a6e61eba3a1fb64b1a61798.pdf?src-supplier=Allied+Electronics; ComponentLink3Description: https://www.alliedelec.com/m/d/83b2d53b3a6e61eba3a1fb64b1a61798.pdf?src-supplier=Allied+Electronics; ComponentLink4URL: https://www.verical.com/server-webapp/html/getDatasheet?partID=176379&src-supplier=Verical; ComponentLink4Description: https://www.verical.com/server-webapp/html/getDatasheet?partID=176379&src-supplier=Verical; ComponentLink5URL: https://produktinfo.conrad.com/datenblaetter/725000-749999/740285-da-01-en-LEITERPLATTENSTECKER_MCV_1_5__2_G_3_81.pdf?src-supplier=Conrad; ComponentLink5Description: https://produktinfo.conrad.com/datenblaetter/725000-749999/740285-da-01-en-LEITERPLATTENSTECKER_MCV_1_5__2_G_3_81.pdf?src-supplier=Conrad; Supplier Part Number 1: 277-1221-ND
footprint SOCKET_3.81_1X2_180_CLOSE
footprint SOCKET_3.81_1X2_180_CLOSE_WITH_PLUG
pins: 1, 2

## 1803439
designator J?
TERM BLOCK HDR 3POS VERT 3.81MM; Manufacturer 1: Phoenix Contact; Current Rating: 8A; Voltage Rating: 160V; Number of Positions Per Level: 3; Number of Levels: 1; Voltage: 300V; Connector Type: Plug; Gender: Male; Voltage Rating (DC): 640mV; Approvals: UL,CSA,VDE,cULus,CB; Supplier 1: Digi-Key; Manufacturer Part Number 1: 1803439; Description 1: TERM BLOCK HDR 3POS VERT 3.81MM; Stock 1: 5145; Pricing 1: 1=1.26, 10=1.208, 50=1.155, 100=1.1235, 250=1.05, 500=0.966, 1000=0.8925, 2500=0.8505, 5000=0.798 (USD); Mount: Through Hole; Weight: 4oz; Color: Green; Contact Plating: Tin; Housing Color: Green; Housing Material: Polybutylene; Contact Material: Tin; Package Quantity: 50; Packaging: Bulk; Number of Rows: 1; Termination: Solder; Current: 8A; Number of Positions: 3; Number of Contacts: 3; Max Current Rating: 8A; Orientation: Straight; Number of Poles: 3; Length: 12.82mm; Height: 12.6mm; Pitch: 3.81mm; Depth: 7.25mm; Width: 12.82mm; Lead Free: Lead Free; Flammability Rating: UL94 V-0; REACH SVHC: No SVHC; ComponentLink1URL: http://www.farnell.com/datasheets/2138271.pdf?src-supplier=Element14; ComponentLink1Description: http://www.farnell.com/datasheets/2138271.pdf?src-supplier=Element14; ComponentLink2URL: https://media.digikey.com/pdf/Data%20Sheets/Phoenix%20Contact%20PDFs/1803439.pdf?src-supplier=Digi-Key; ComponentLink2Description: https://media.digikey.com/pdf/Data%20Sheets/Phoenix%20Contact%20PDFs/1803439.pdf?src-supplier=Digi-Key; ComponentLink3URL: https://www.verical.com/server-webapp/html/getDatasheet?partID=176372&src-supplier=Verical; ComponentLink3Description: https://www.verical.com/server-webapp/html/getDatasheet?partID=176372&src-supplier=Verical; ComponentLink4URL: https://produktinfo.conrad.com/datenblaetter/725000-749999/740304-da-01-en-LEITERPLATTENSTECKER_MCV_1_5__3_G_3_81.pdf?src-supplier=Conrad; ComponentLink4Description: https://produktinfo.conrad.com/datenblaetter/725000-749999/740304-da-01-en-LEITERPLATTENSTECKER_MCV_1_5__3_G_3_81.pdf?src-supplier=Conrad; Supplier Part Number 1: 277-1222-ND
footprint 1x3_150mil_connector_180
pins: 1, 2, 3

## 1803442
designator J?
TERM BLOCK HDR 4POS VERT3.81MM; Manufacturer: Phoenix Contact; Current Rating: 8A; Voltage Rating: 160V; Number of Positions Per Level: 4; Number of Levels: 1; Voltage: 300V; Connector Type: Plug; Gender: Male; Voltage Rating (DC): 640mV; Pitch: 3.81mm; Approvals: UL,CSA,VDE,cULus,CB; Supplier 1: Digi-Key; Manufacturer Part Number: 1803442; Stock 1: 0; Pricing 1: 1=1.71, 10=1.642, 50=1.5708, 100=1.528, 250=1.428, 500=1.31376, 1000=1.21381, 2500=1.15668, 5000=1.08528 (USD); Mount: Through Hole; Weight: 4oz; Color: Green; Contact Plating: Tin; Housing Color: Green; Housing Material: Polybutylene; Contact Material: Tin; Package Quantity: 50; Packaging: Bulk; Number of Rows: 1; Termination: Solder; Current: 8A; Number of Positions: 4; Number of Contacts: 4; Max Current Rating: 8A; Orientation: Straight; Number of Poles: 4; Length: 16.63mm; Height: 12.6mm; Width: 16.63mm; Depth: 7.25mm; Lead Free: Lead Free; Flammability Rating: UL94 V-0; REACH SVHC: No SVHC; ComponentLink1URL: https://media.digikey.com/pdf/Data%20Sheets/Phoenix%20Contact%20PDFs/1803442.pdf?src-supplier=Digi-Key; ComponentLink1Description: https://media.digikey.com/pdf/Data%20Sheets/Phoenix%20Contact%20PDFs/1803442.pdf?src-supplier=Digi-Key; ComponentLink2URL: http://www.farnell.com/datasheets/2309846.pdf?src-supplier=Element14; ComponentLink2Description: http://www.farnell.com/datasheets/2309846.pdf?src-supplier=Element14; ComponentLink3URL: http://www.farnell.com/datasheets/2309846.pdf?src-supplier=Newark; ComponentLink3Description: http://www.farnell.com/datasheets/2309846.pdf?src-supplier=Newark; ComponentLink4URL: https://www.verical.com/server-webapp/html/getDatasheet?partID=211515&src-supplier=Verical; ComponentLink4Description: https://www.verical.com/server-webapp/html/getDatasheet?partID=211515&src-supplier=Verical; ComponentLink5URL: https://produktinfo.conrad.com/datenblaetter/725000-749999/740321-da-01-en-LEITERPLATTENSTECKER_MCV_1_5__4_G_3_81.pdf?src-supplier=Conrad; ComponentLink5Description: https://produktinfo.conrad.com/datenblaetter/725000-749999/740321-da-01-en-LEITERPLATTENSTECKER_MCV_1_5__4_G_3_81.pdf?src-supplier=Conrad; Supplier Part Number 1: 277-1223-ND
footprint SOCKET_3.81_1X4_180_CLOSE
footprint SOCKET_3.81_1X4_180_CLOSEWITH_BLOCK
pins: 1, 2, 3, 4

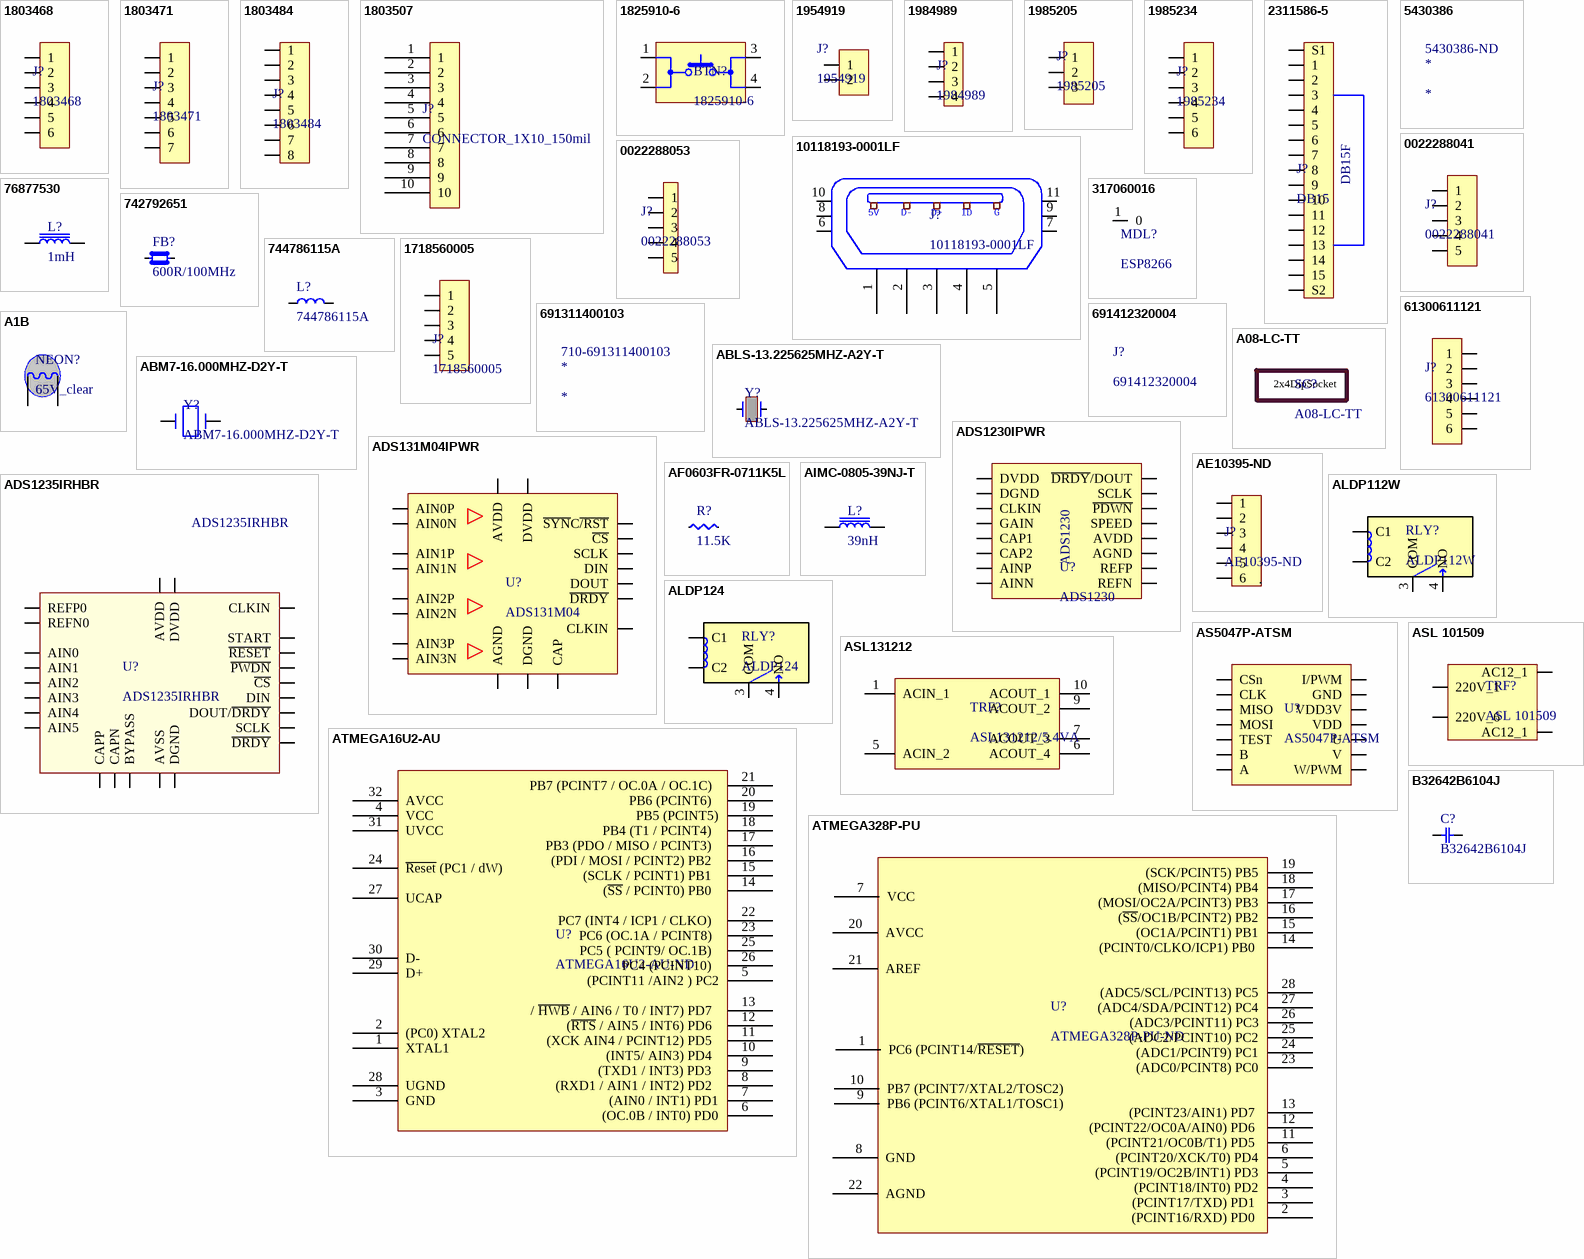
[diagram p2: symbols 1803468 to B32642B6104J]

## 1803468
designator J?
TERM BLOCK HDR 6POS VERT 3.81MM; Manufacturer: Phoenix Contact; Current Rating: 8A; Voltage Rating: 160V; Number of Positions Per Level: 6; Number of Levels: 1; Voltage: 300V; Connector Type: Plug; Gender: Male; Voltage Rating (DC): 640mV; Approvals: CB,CSA,cULus,UL,VDE; Supplier 1: Digi-Key; Manufacturer Part Number: 1803468; Stock 1: 3755; Pricing 1: 1=2.43, 10=2.322, 50=2.2582, 100=2.1105, 250=1.94168, 500=1.79392, 1000=1.70951, 2500=1.60398 (USD); Mount: Through Hole; Weight: 4oz; Color: Green; Contact Plating: Tin; Housing Color: Green; Housing Material: Polybutylene; Contact Material: Tin; Package Quantity: 50; Packaging: Bulk; Termination: Solder; Current: 8A; Number of Positions: 6; Number of Rows: 1; Max Current Rating: 8A; Orientation: Straight; Number of Contacts: 6; Number of Poles: 6; Length: 24.25mm; Height: 12.6mm; Pitch: 3.81mm; Width: 24.25mm; Depth: 7.25mm; Flammability Rating: UL94 V-0; Lead Free: Lead Free; REACH SVHC: No SVHC; ComponentLink1URL: http://www.farnell.com/datasheets/2138273.pdf?src-supplier=Element14; ComponentLink1Description: http://www.farnell.com/datasheets/2138273.pdf?src-supplier=Element14; ComponentLink2URL: https://www.alliedelec.com/m/d/7a848dd3bdea4aef9d3f6a20c23600fa.pdf?src-supplier=Allied+Electronics; ComponentLink2Description: https://www.alliedelec.com/m/d/7a848dd3bdea4aef9d3f6a20c23600fa.pdf?src-supplier=Allied+Electronics; ComponentLink3URL: https://media.digikey.com/pdf/Data%20Sheets/Phoenix%20Contact%20PDFs/1803468.pdf?src-supplier=Digi-Key; ComponentLink3Description: https://media.digikey.com/pdf/Data%20Sheets/Phoenix%20Contact%20PDFs/1803468.pdf?src-supplier=Digi-Key; ComponentLink4URL: https://www.verical.com/server-webapp/html/getDatasheet?partID=176373&src-supplier=Verical; ComponentLink4Description: https://www.verical.com/server-webapp/html/getDatasheet?partID=176373&src-supplier=Verical; ComponentLink5URL: https://produktinfo.conrad.com/datenblaetter/725000-749999/740358-da-01-en-LEITERPLATTENSTECKER_MCV_1_5__6_G_3_81.pdf?src-supplier=Conrad; ComponentLink5Description: https://produktinfo.conrad.com/datenblaetter/725000-749999/740358-da-01-en-LEITERPLATTENSTECKER_MCV_1_5__6_G_3_81.pdf?src-supplier=Conrad; Supplier Part Number 1: 277-1225-ND
footprint 1x6_150mil_connector_180
pins: 1, 2, 3, 4, 5, 6

## 1803471
designator J?
TERM BLOCK HDR 7POS VERT 3.81MM; Manufacturer 1: Phoenix Contact; Current Rating: 8A; Voltage Rating: 160V; Number of Positions: 7; Number of Levels: 1; Voltage: 300V; Gender: Male; Voltage Rating (DC): 640mV; Approvals: UL,CSA; Supplier 1: Digi-Key; Manufacturer Part Number 1: 1803471; Description 1: TERM BLOCK HDR 7POS VERT 3.81MM; Stock 1: 575; Pricing 1: 1=2.85, 10=2.726, 50=2.6514, 100=2.478, 250=2.27976, 500=2.1063, 1000=2.00718, 2500=1.88328 (USD); Mount: Through Hole; Weight: 4oz; Color: Green; Contact Plating: Tin; Housing Color: Green; Housing Material: Polybutylene; Material: PBT; Package Quantity: 50; Packaging: Bulk; Number of Rows: 1; Termination: Solder; Number of Positions Per Level: 7; Current: 8A; Max Current Rating: 8A; Number of Contacts: 7; Orientation: Straight; Number of Poles: 7; Length: 28.06mm; Pitch: 3.81mm; Width: 7.25mm; Depth: 7.25mm; Lead Free: Lead Free; Flammability Rating: UL94 V-0; ComponentLink1URL: https://media.digikey.com/pdf/Data%20Sheets/Phoenix%20Contact%20PDFs/1803471.pdf?src-supplier=Digi-Key; ComponentLink1Description: https://media.digikey.com/pdf/Data%20Sheets/Phoenix%20Contact%20PDFs/1803471.pdf?src-supplier=Digi-Key; ComponentLink2URL: https://www.verical.com/server-webapp/html/getDatasheet?partID=176487&src-supplier=Verical; ComponentLink2Description: https://www.verical.com/server-webapp/html/getDatasheet?partID=176487&src-supplier=Verical; ComponentLink3URL: https://produktinfo.conrad.com/datenblaetter/725000-749999/740375-da-01-en-LEITERPLATTENSTECKER_MCV_1_5__7_G_3_81.pdf?src-supplier=Conrad; ComponentLink3Description: https://produktinfo.conrad.com/datenblaetter/725000-749999/740375-da-01-en-LEITERPLATTENSTECKER_MCV_1_5__7_G_3_81.pdf?src-supplier=Conrad; Supplier Part Number 1: 277-1226-ND
footprint SOCKET_3.81_1X7_180_CLOSE
footprint SOCKET_3.81_1X7_180_CLOSE_WITH_PLUG
pins: 1, 2, 3, 4, 5, 6, 7

## 1803484
designator J?
TERM BLOCK HDR 8POS VERT 3.81MM; Manufacturer: Phoenix Contact; Current Rating: 8A; Voltage Rating: 160V; Number of Positions Per Level: 8; Number of Levels: 1; Voltage: 300V; Connector Type: Plug; Gender: Male; Voltage Rating (DC): 640mV; Approvals: UL,CSA,VDE,cULus,CB; Supplier 1: Digi-Key; Manufacturer Part Number: 1803484; Stock 1: 1424; Pricing 1: 1=3.18, 10=3.038, 50=2.9548, 100=2.7615, 250=2.54056, 500=2.34728, 1000=2.23682, 2500=2.09874, 5000=1.8975 (USD); Mount: Through Hole; Weight: 4oz; Color: Green; Contact Plating: Tin; Housing Color: Green; Housing Material: Polybutylene; Contact Material: Tin; Package Quantity: 50; Packaging: Bulk; Termination: Solder; Current: 8A; Number of Positions: 8; Number of Rows: 1; Max Current Rating: 8A; Orientation: Straight; Number of Contacts: 8; Number of Poles: 8; Length: 31.87mm; Height: 12.6mm; Pitch: 3.81mm; Width: 31.87mm; Depth: 7.25mm; Lead Free: Lead Free; Flammability Rating: UL94 V-0; REACH SVHC: No SVHC; ComponentLink1URL: https://www.verical.com/server-webapp/html/getDatasheet?partID=176362&src-supplier=Verical; ComponentLink1Description: https://www.verical.com/server-webapp/html/getDatasheet?partID=176362&src-supplier=Verical; ComponentLink2URL: https://media.digikey.com/pdf/Data%20Sheets/Phoenix%20Contact%20PDFs/1803484.pdf?src-supplier=Digi-Key; ComponentLink2Description: https://media.digikey.com/pdf/Data%20Sheets/Phoenix%20Contact%20PDFs/1803484.pdf?src-supplier=Digi-Key; ComponentLink3URL: http://www.farnell.com/datasheets/2309845.pdf?src-supplier=Element14; ComponentLink3Description: http://www.farnell.com/datasheets/2309845.pdf?src-supplier=Element14; ComponentLink4URL: https://produktinfo.conrad.com/datenblaetter/725000-749999/740390-da-01-en-LEITERPLATTENSTECKER_MCV_1_5__8_G_3_81.pdf?src-supplier=Conrad; ComponentLink4Description: https://produktinfo.conrad.com/datenblaetter/725000-749999/740390-da-01-en-LEITERPLATTENSTECKER_MCV_1_5__8_G_3_81.pdf?src-supplier=Conrad; ComponentLink5URL: http://www.todaycomponents.com/media/datasheet/1803484.pdf?src-supplier=Today+Components; ComponentLink5Description: http://www.todaycomponents.com/media/datasheet/1803484.pdf?src-supplier=Today+Components
footprint SOCKET_3.81_1X8_180_CLOSE
pins: 1, 2, 3, 4, 5, 6, 7, 8

## 1803507
designator J?, comment CONNECTOR_1X10_150mil
TERM BLOCK HDR 10POS VERT 3.81MM; Manufacturer: Phoenix Contact; Manufacturer Part Number: 1803507; Number of Positions: 10; Number of Levels: 1; Pitch: 0.150" (3.81mm); Header Orientation: Vertical; Current - IEC: 8A; Material Flammability Rating: UL94 V-0; Contact Tail Length: 0.134" (3.40mm); Supplier 1: Digi-Key; RoHS: RoHS Compliant; Category: Connectors, Interconnects; Stock 1: 3603; Pricing 1: 1=3.84, 10=3.674, 50=3.5738, 100=3.34, 250=3.07284, 500=2.839, 1000=2.70542, 2500=2.5384 (USD); Packaging: Bulk; Part Status: Active; Type: Header, Male Pins, Shrouded (4 Side); Positions Per Level: 10; Plug Wire Entry: -; Termination Style: Solder; Mounting Type: Through Hole; Wire Gauge or Range - AWG: -; Wire Gauge or Range - mm²: -; Color: Green; Operating Temperature: -; Contact Mating Finish: Tin; Features: -; Ingress Protection: -; Screw Size: -; Torque - Screw: -; Wire Strip Length: -; Contact Material: -; Housing Material: Polybutylene Terephthalate (PBT); Insulation Height: 0.362" (9.20mm); ComponentLink1URL: https://media.digikey.com/pdf/Data%20Sheets/Phoenix%20Contact%20PDFs/1803507.pdf; ComponentLink1Description: https://media.digikey.com/pdf/Data%20Sheets/Phoenix%20Contact%20PDFs/1803507.pdf; Supplier Part Number 1: 277-1229-ND
footprint Connector_1x10_150mil
pins: 1, 2, 3, 4, 5, 6, 7, 8, 9, 10

## 1825910-6
designator BTN?
SWITCH TACTILE SPST-NO 0.05A 24V; Manufacturer: TE Connectivity ALCOSWITCH Switches; Switch Function: Off-Mom; Contact Rating @ Voltage: 0.05A @ 24VDC; Actuator Type: Standard; Actuator Height off PCB, Vertical: 5.00mm; Actuator Orientation: Top Actuated; Outline: 6.00mm x 6.00mm; Illumination: Non-Illuminated; Operating Force: 160gf; Actuator Material: Polybutylene Terephthalate (PBT); Switch Travel: 0.25mm; Mechanical Life: 100,000 Cycles; Supplier 1: Digi-Key; Manufacturer Part Number: 1825910-6; RoHS: RoHS Compliant; Category: Switches; Stock 1: 73039; Pricing 1: 1=0.1, 10=0.088, 25=0.0856, 50=0.0824, 100=0.0778, 250=0.07324, 500=0.07018, 1000=0.0534, 5000=0.04425 (USD); Packaging: Bulk; Part Status: Active; Circuit: SPST-NO; Mounting Type: Through Hole; Actuator Length, Right Angle: -; Termination Style: PC Pin; Illumination Type, Color: -; Illumination Voltage (Nominal): -; Ingress Protection: -; Features: -; Operating Temperature: -35°C ~ 85°C; ComponentLink1URL: http://www.te.com/commerce/DocumentDelivery/DDEController?Action=srchrtrv&DocNm=1825910&DocType=Customer+Drawing&DocLang=English; ComponentLink1Description: http://www.te.com/commerce/DocumentDelivery/DDEController?Action=srchrtrv&DocNm=1825910&DocType=Customer+Drawing&DocLang=English; Supplier Part Number 1: 450-1650-ND
footprint 1825910-6
pins: 1, 2, 3, 4

## 1954919
designator J?
TERM BLOCK 2POS 5.08MM 90DEG BLACK; Manufacturer 1: Phoenix Contact; Description 1: Terminal block; PCB; Header; Male Pins; Shrouded; 2 pos; 12A per pos; 400V; Solder; Max Current Rating: 12A; Voltage Rating: 250V; Number of Positions Per Level: 2; Number of Levels: 1; Current: 10A; Voltage: 300V; Voltage Rating (DC): 800mV; Connector Type: Plug; Supplier 1: Digi-Key; Manufacturer Part Number 1: 1954919; Stock 1: 1306; Pricing 1: 1=0.74, 10=0.718, 50=0.671, 100=0.6173, 250=0.57036, 500=0.54352, 1000=0.50996 (USD); Mount: Through Hole; Weight: 5.25582oz; Color: Black; Contact Plating: Tin; Housing Color: Black; Housing Material: Polymer; Contact Material: Tin; Packaging: Bulk; Current Rating: 12A; Package Quantity: 50; Number of Rows: 1; Termination: Solder; Number of Positions: 2; Number of Contacts: 2; Orientation: Right Angle; Length: 2.6mm; Height: 12mm; Pitch: 5.08mm; Depth: 12mm; Width: 12.96mm; Lead Free: Lead Free; Flammability Rating: UL94 V-0; ComponentLink1URL: https://media.digikey.com/pdf/Data%20Sheets/Phoenix%20Contact%20PDFs/1954919.pdf?src-supplier=Digi-Key; ComponentLink1Description: https://media.digikey.com/pdf/Data%20Sheets/Phoenix%20Contact%20PDFs/1954919.pdf?src-supplier=Digi-Key; ComponentLink2URL: https://produktinfo.conrad.com/datenblaetter/550000-574999/568404-da-01-en-GRUNDGEHAEUSE__1954919_50_ST.pdf?src-supplier=Conrad; ComponentLink2Description: https://produktinfo.conrad.com/datenblaetter/550000-574999/568404-da-01-en-GRUNDGEHAEUSE__1954919_50_ST.pdf?src-supplier=Conrad; Supplier Part Number 1: 277-6493-ND
footprint SOCKET_5.08_1X2_90_CLOSE_BLACK
pins: 1, 2

## 1984989
designator J?
TERM BLOCK 4POS 3.5mm Solder Thru-Hole 2A; Manufacturer: Phoenix Contact; Voltage Rating: 200V; Max Supply Voltage: 250V; Number of Poles: 4; Number of Levels: 1; Voltage: 300V; Wire Gauge (Max): 24AWG; Wire Gauge (Min): 16AWG; Stripping Length: 8mm; Approvals: UL,VDE; Supplier 1: Digi-Key; Manufacturer Part Number: 1984989; Stock 1: 9463; Pricing 1: 1=0.58, 10=0.555, 50=0.5314, 100=0.5168, 250=0.483, 500=0.44436, 1000=0.41055, 2500=0.4105 (USD); Mount: Through Hole; Number of Pins: 4; Weight: 0.069842oz; Color: Green; Material: Nylon; Housing Color: Green; Housing Material: Polyamide; Contact Material: Copper Alloy; Current Rating: 2A; Package Quantity: 250; Packaging: Bulk; Number of Rows: 1; Max Current Rating: 2A; Number of Positions: 4; Termination: Solder; Number of Positions Per Level: 4; Current: 2A; Length: 12mm; Height: 13.1mm; Width: 16.7mm; Pitch: 3.5mm; Depth: 12mm; Wire/Cable Gauge: 16AWG; Radiation Hardening: No; Lead Free: Lead Free; ComponentLink1URL: https://www.verical.com/server-webapp/html/getDatasheet?partID=717984&src-supplier=Verical; ComponentLink1Description: https://www.verical.com/server-webapp/html/getDatasheet?partID=717984&src-supplier=Verical; ComponentLink2URL: https://media.digikey.com/pdf/Data%20Sheets/Phoenix%20Contact%20PDFs/COMBICON%20Spring-Cage%20PCB%20Term.%20Blocks.pdf?src-supplier=Digi-Key; ComponentLink2Description: https://media.digikey.com/pdf/Data%20Sheets/Phoenix%20Contact%20PDFs/COMBICON%20Spring-Cage%20PCB%20Term.%20Blocks.pdf?src-supplier=Digi-Key; ComponentLink3URL: https://www.alliedelec.com/m/d/46afd96412b1b8fa400ea99294e4d68a.pdf?src-supplier=Allied+Electronics; ComponentLink3Description: https://www.alliedelec.com/m/d/46afd96412b1b8fa400ea99294e4d68a.pdf?src-supplier=Allied+Electronics; Supplier Part Number 1: 277-6404-ND
pins: 1, 2, 3, 4

## 1985205
designator J?
TERM BLOCK 3POS 45DEG 3.5MM PCB; Manufacturer: Phoenix Contact; Number of Poles: 3; Voltage Rating: 250V; Max Current Rating: 2A; Number of Levels: 1; Voltage: 300V; Wire Gauge (Max): 24AWG; Wire Gauge (Min): 16AWG; Stripping Length: 8mm; Approvals: UL,VDE; Supplier 1: Digi-Key; Manufacturer Part Number: 1985205; Stock 1: 21346; Pricing 1: 1=0.43, 10=0.411, 50=0.3928, 100=0.382, 250=0.357, 500=0.32844, 1000=0.3035 (USD); Mount: Through Hole; Number of Pins: 3; Weight: 0.054322oz; Color: Green; Material: Nylon; Housing Color: Green; Housing Material: Polyamide; Insulation Material: Nylon; Contact Material: Tin; Current Rating: 2A; Package Quantity: 250; Packaging: Bulk; Number of Rows: 1; Max Supply Voltage: 250V; Number of Positions Per Level: 3; Current: 2A; Termination: Solder; Number of Positions: 3; Number of Contacts: 3; Number of Circuits: 3; Length: 12mm; Height: 13.1mm; Width: 16.7mm; Pitch: 3.5mm; Depth: 12mm; Wire/Cable Gauge: 16AWG; Radiation Hardening: No; Lead Free: Lead Free; Flammability Rating: UL94 V-2; REACH SVHC: Unknown; ComponentLink1URL: https://media.digikey.com/pdf/Data%20Sheets/Phoenix%20Contact%20PDFs/COMBICON%20Spring-Cage%20PCB%20Term.%20Blocks.pdf?src-supplier=Digi-Key; ComponentLink1Description: https://media.digikey.com/pdf/Data%20Sheets/Phoenix%20Contact%20PDFs/COMBICON%20Spring-Cage%20PCB%20Term.%20Blocks.pdf?src-supplier=Digi-Key; ComponentLink2URL: https://www.verical.com/server-webapp/html/getDatasheet?partID=743520&src-supplier=Verical; ComponentLink2Description: https://www.verical.com/server-webapp/html/getDatasheet?partID=743520&src-supplier=Verical; ComponentLink3URL: https://www.alliedelec.com/m/d/46afd96412b1b8fa400ea99294e4d68a.pdf?src-supplier=Allied+Electronics; ComponentLink3Description: https://www.alliedelec.com/m/d/46afd96412b1b8fa400ea99294e4d68a.pdf?src-supplier=Allied+Electronics; Supplier Part Number 1: 277-1623-ND
footprint SOCKET_3.5_1X3_45_SCREWLESS
pins: 1, 2, 3